# Altium schematic symbol library DVI-I.SchLib: 1 symbol
Pins are listed as number, name and electrical type; pins without a type are passive.

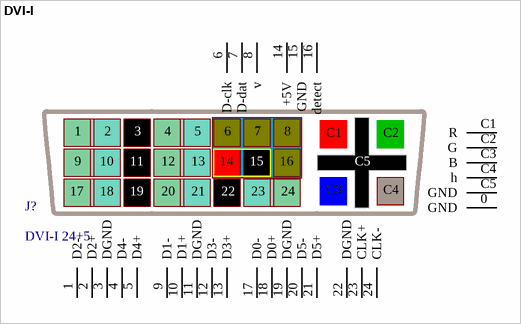
[diagram p0: symbol DVI-I]

## DVI-I
designator J?, comment DVI-I 24+5
footprint DVI-I
pins: 0 GND, 1 D2-, 2 D2+, 3 DGND, 4 D4-, 5 D4+, 6 D-clk, 7 D-dat, 8 v, 9 D1-, 10 D1+, 11 DGND, 12 D3-, 13 D3+, 14 +5V, 15 GND, 16 detect, 17 D0-, 18 D0+, 19 DGND, 20 D5-, 21 D5+, 22 DGND, 23 CLK+, 24 CLK-, C1 R, C2 G, C3 B, C4 h, C5 GND